# Altium footprint library EE490.PcbLib: 59 footprints (part 1 of 4)
Each footprint in its own frame and in the unit in brackets; x right, y up, seen from the top. Pads: shape width x height; smd on the part's side, far side on the other; paste and mask are expansions set on the pad; w line width, h text height; cw(c..) or ccw(c..) is an arc to the next point about the centre after c.
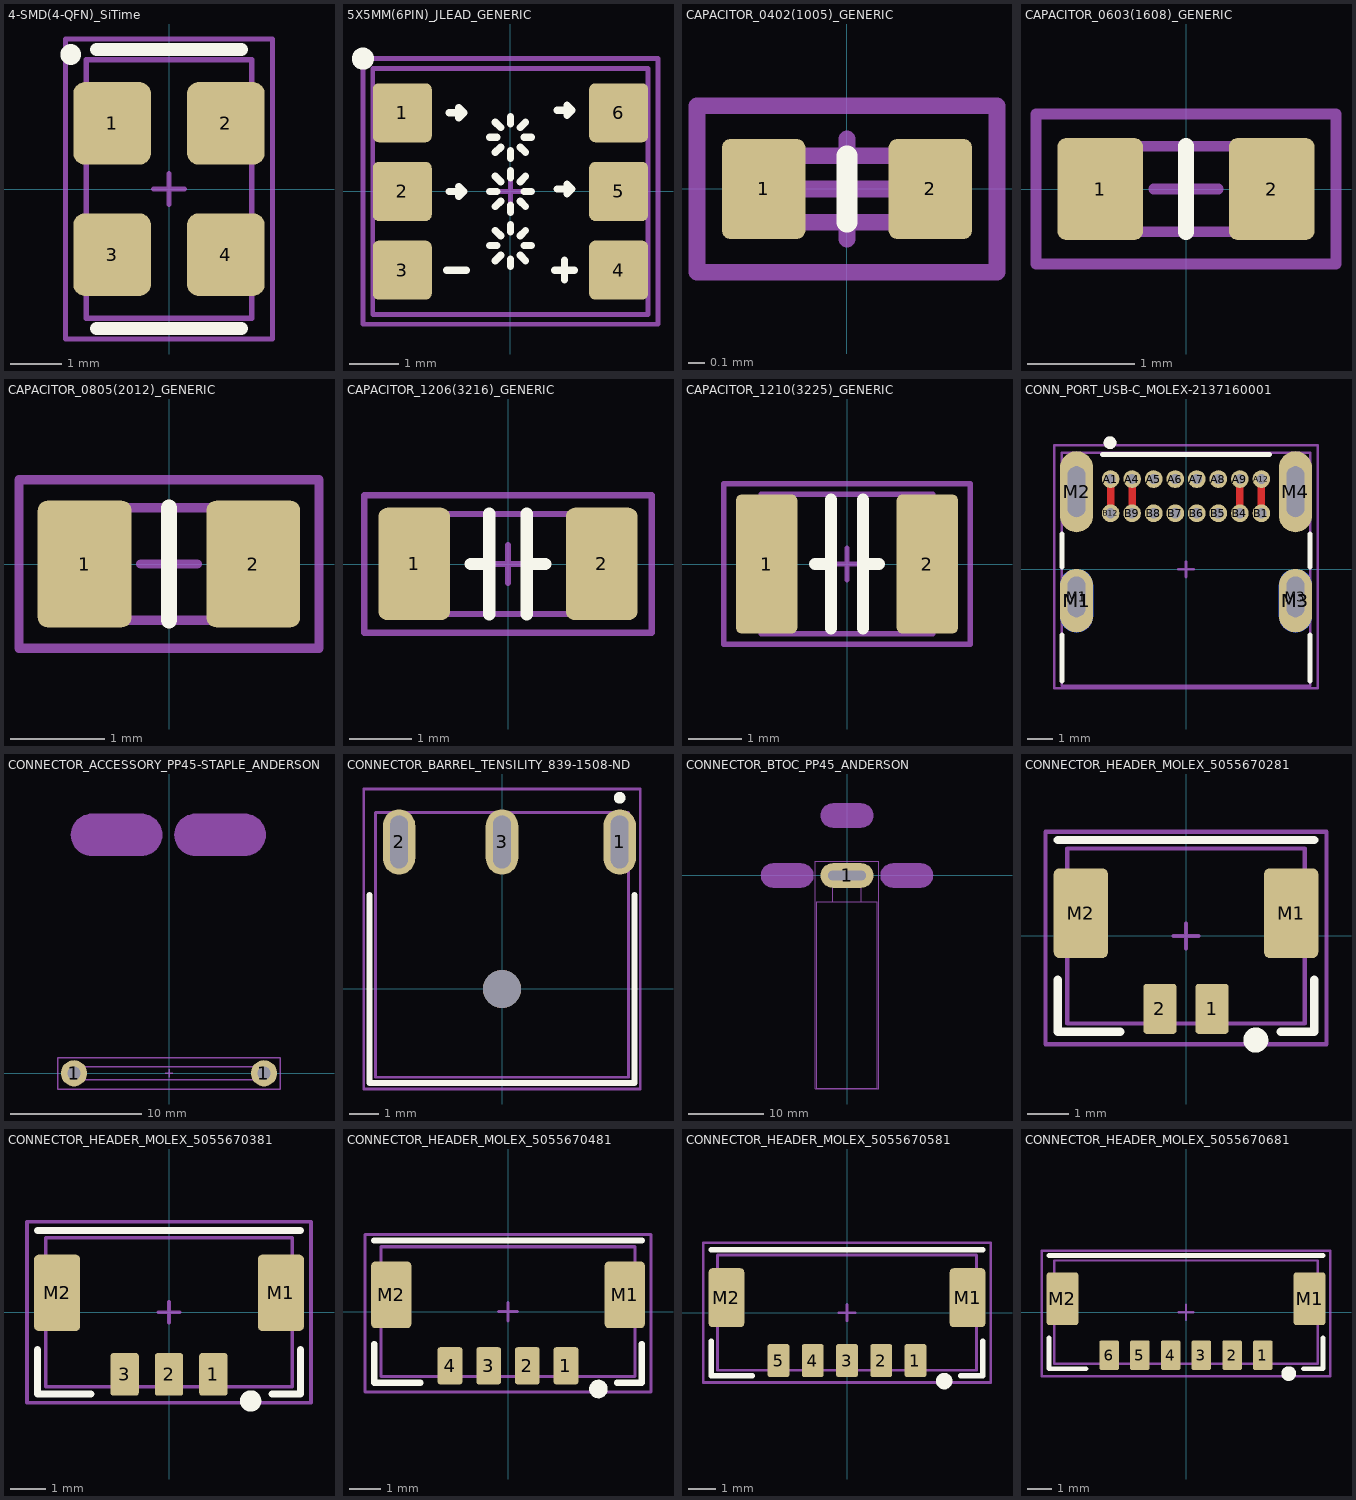
[diagram p0: the footprints below, top view; thin cyan lines are the x and y axes]

## 4-SMD(4-QFN)_SiTime [mm]
height 0.8
pads (4):
  rrect30% 1.5x1.6 smd: 1(-1.1,1.27) 2(1.1,1.27) 3(-1.1,-1.27) 4(1.1,-1.27)
Top Overlay:
  circle w0.3: c-1.9,2.6 r0.05
  lines w0.25: -1.4,-2.7 1.4,-2.7 ; -1.4,2.7 1.4,2.7
Top Component Center:
  lines w0.1: -0.3,0 0.3,0 ; 0,-0.3 0,0.3
Top Component Outline:
  lines w0.1: -1.6,-2.5 -1.6,2.5 1.6,2.5 1.6,-2.5 -1.6,-2.5
Top Designator:
  text ".Designator" at -4.998,-0.333 h1
Top Courtyard:
  lines w0.1: -2,-2.9 2,-2.9 2,2.9 -2,2.9 -2,-2.9
3D body "QFN_5032_4pins-Color.stp": height 0.83, standoff 0, extent -1.6,-2.5 1.6,2.5

## 5X5MM(6PIN)_JLEAD_GENERIC [mm]
pads (6):
  rrect20% 1.2x1.2 smd: 1(-2.2,1.6) 2(-2.2,0) 3(-2.2,-1.6) 4(2.2,-1.6) 5(2.2,0) 6(2.2,1.6)
Top Overlay:
  circle w0.25: c-3,2.7 r0.1
  lines w0.15: -1.3,-1.6 -0.9,-1.6 ; -1.25,0 -0.95,0 ; -1.25,1.6 -0.95,1.6 ; -1.05,-0.1 -0.95,0 ; -1.05,0.1 -0.95,0 ; -1.05,1.5 -0.95,1.6 ; -1.05,1.7 -0.95,1.6 ; -0.425,-1.1 -0.275,-1.1 ; -0.425,0 -0.275,0 ; -0.425,1.1 -0.275,1.1 ; -0.306,-1.406 -0.2,-1.3 ; -0.306,-0.794 -0.2,-0.9 ; -0.306,-0.306 -0.2,-0.2 ; -0.306,0.306 -0.2,0.2 ; -0.306,0.794 -0.2,0.9 ; -0.306,1.406 -0.2,1.3 ; 0,-1.525 0,-1.375 ; 0,-0.825 0,-0.675 ; 0,-0.425 0,-0.275 ; 0,0.275 0,0.425 ; 0,0.675 0,0.825 ; 0,1.375 0,1.525 ; 0.2,-1.3 0.306,-1.406 ; 0.2,-0.9 0.306,-0.794 ; 0.2,-0.2 0.306,-0.306 ; 0.2,0.2 0.306,0.306 ; 0.2,0.9 0.306,0.794 ; 0.2,1.3 0.306,1.406 ; 0.275,-1.1 0.425,-1.1 ; 0.275,0 0.425,0 ; 0.275,1.1 0.425,1.1 ; 0.9,-1.6 1.3,-1.6 ; 0.95,0.05 1.25,0.05 ; 0.95,1.65 1.25,1.65 ; 1.1,-1.8 1.1,-1.4 ; 1.15,-0.05 1.25,0.05 ; 1.15,0.15 1.25,0.05 ; 1.15,1.55 1.25,1.65 ; 1.15,1.75 1.25,1.65
Top Component Center:
  lines w0.1: -0.3,0 0.3,0 ; 0,-0.3 0,0.3
Top Component Outline:
  lines w0.1: -2.8,-2.5 2.8,-2.5 2.8,2.5 -2.8,2.5 -2.8,-2.5
Top Designator:
  text ".Designator" at -4.998,-0.333 h1
Top Courtyard:
  lines w0.1: -3,-2.7 3,-2.7 3,2.7 -3,2.7 -3,-2.7
3D body "Dotstar.stp": height 1.55, standoff 0, extent -2.75,-2.5 2.75,2.5

## CAPACITOR_0402(1005)_GENERIC [mm]
pads (2):
  rrect20% 0.5x0.6 smd: 1(-0.5,0) 2(0.5,0)
Top Overlay:
  lines w0.125: 0,-0.2 0,0.2
Top Component Center:
  lines w0.1: -0.3,0 0.3,0 ; 0,-0.3 0,0.3
Top Component Outline:
  lines w0.1: -0.5,-0.2 0.5,-0.2 0.5,0.2 -0.5,0.2 -0.5,-0.2
Top Designator:
  text ".Designator" at -2.499,-0.167 h0.5
Top Courtyard:
  lines w0.1: -0.9,-0.5 0.9,-0.5 0.9,0.5 -0.9,0.5 -0.9,-0.5
3D body "CAPC1005X06L.step": height 0.55, standoff 0, extent -0.5,-0.25 0.5,0.25

## CAPACITOR_0603(1608)_GENERIC [mm]
height 0.6
pads (2):
  rrect20% 0.8x0.95 smd: 1(-0.8,0) 2(0.8,0)
Top Overlay:
  lines w0.15: 0,-0.4 0,0.4
Top Component Center:
  lines w0.1: -0.3,0 0.3,0 ; 0,-0.3 0,0.3
Top Component Outline:
  lines w0.1: -0.8,-0.4 0.8,-0.4 0.8,0.4 -0.8,0.4 -0.8,-0.4
Top Designator:
  text ".Designator" at -3.999,-0.267 h0.8
Top Courtyard:
  lines w0.1: -1.4,-0.7 1.4,-0.7 1.4,0.7 -1.4,0.7 -1.4,-0.7
3D body "CAPC1608X09L.step": height 0.9, standoff 0, extent -0.8,-0.4 0.8,0.4

## CAPACITOR_0805(2012)_GENERIC [mm]
height 0.6
pads (2):
  rrect20% 1x1.35 smd: 1(-0.9,0) 2(0.9,0)
Top Overlay:
  lines w0.175: 0,-0.6 0,0.6
Top Component Center:
  lines w0.1: -0.3,0 0.3,0 ; 0,-0.3 0,0.3
Top Component Outline:
  lines w0.1: -1,-0.6 1,-0.6 1,0.6 -1,0.6 -1,-0.6
Top Designator:
  text ".Designator" at -4.998,-0.333 h1
Top Courtyard:
  lines w0.1: -1.6,-0.9 1.6,-0.9 1.6,0.9 -1.6,0.9 -1.6,-0.9
3D body "CAPC2012X14L.step": height 1.35, standoff 0, extent -1,-0.625 1,0.625

## CAPACITOR_1206(3216)_GENERIC [mm]
height 0.6
pads (2):
  rrect25% 1.15x1.8 smd: 1(-1.5,0) 2(1.5,0)
Top Overlay:
  lines w0.2: -0.6,0 -0.3,0 ; -0.3,-0.8 -0.3,0.8 ; 0.3,-0.8 0.3,0.8 ; 0.3,0 0.6,0
Top Component Center:
  lines w0.1: -0.3,0 0.3,0 ; 0,-0.3 0,0.3
Top Component Outline:
  lines w0.1: -1.6,-0.8 1.6,-0.8 1.6,0.8 -1.6,0.8 -1.6,-0.8
Top Designator:
  text ".Designator" at -4.998,-0.333 h1
Top Courtyard:
  lines w0.1: -2.3,-1.1 2.3,-1.1 2.3,1.1 -2.3,1.1 -2.3,-1.1
3D body "CAPC3216X18L.step": height 1.8, standoff 0, extent -1.6,-0.8 1.6,0.8

## CAPACITOR_1210(3225)_GENERIC [mm]
height 0.6
pads (2):
  rrect20% 1.15x2.6 smd: 1(-1.5,0) 2(1.5,0)
Top Overlay:
  lines w0.225: -0.6,0 -0.3,0 ; -0.3,-1.2 -0.3,1.2 ; 0.3,-1.2 0.3,1.2 ; 0.3,0 0.6,0
Top Component Center:
  lines w0.1: -0.3,0 0.3,0 ; 0,-0.3 0,0.3
Top Component Outline:
  lines w0.1: -1.6,-1.3 -1.6,1.3 1.6,1.3 1.6,-1.3 -1.6,-1.3
Top Designator:
  text ".Designator" at -5.998,-0.4 h1.2
Top Courtyard:
  lines w0.1: -2.3,-1.5 2.3,-1.5 2.3,1.5 -2.3,1.5 -2.3,-1.5
3D body "CAPC3225X20L.step": height 2, standoff 0, extent -1.6,-1.25 1.6,1.25

## CONN_PORT_USB-C_MOLEX-2137160001 [mm]
height 0.7
pads (24):
  round 0.7 hole 0.4 paste-1000 mask+0: A1(-2.975,3.565) A4(-2.125,3.565) A5(-1.275,3.565) A6(-0.425,3.565) A7(0.425,3.565) A8(1.275,3.565) A9(2.125,3.565) A12(2.975,3.565) B1(2.975,2.215) B4(2.125,2.215) B5(1.275,2.215) B6(0.425,2.215) B7(-0.425,2.215) B8(-1.275,2.215) B9(-2.125,2.215) B12(-2.975,2.215)
  rrect100% 1.3x2.5 smd paste-1000 mask+0: M1(-4.32,-1.235) M3(4.32,-1.235)
  rrect100% 1.3x2.5 smd far side paste-1000 mask+0: M1(-4.32,-1.235) M3(4.32,-1.235)
  rrect100% 0.7x1.6 hole 1.6 slot 0.7 at 0 deg paste-1000 mask+0: M1(-4.32,-1.085) M3(4.32,-1.085)
  rrect100% 1.3x3.2 hole 0.7 slot 2 at 90 deg paste-1000 mask+0: M2(-4.32,3.065) M4(4.32,3.065)
Top Layer:
  lines w0.3: -2.975,2.215 -2.975,3.565 ; -2.125,2.215 -2.125,3.565 ; 2.125,2.215 2.125,3.565 ; 2.975,2.215 2.975,3.565
Top Overlay:
  circle w0.25: c-3,5 r0.125
  lines w0.2: -4.9,-4.4 -4.9,-2.6 ; -4.9,0.1 -4.9,1.4 ; -3.295,4.535 3.295,4.535 ; 4.9,-4.4 4.9,-2.6 ; 4.9,0.1 4.9,1.4
Top Component Center:
  lines w0.1: -0.3,0 0.3,0 ; 0,-0.3 0,0.3
Top Component Outline:
  lines w0.1: -4.9,-4.6 4.9,-4.6 4.9,4.6 -4.9,4.6 -4.9,-4.6
Top Designator:
  text ".Designator" at -7.498,-0.5 h1.5
Top Courtyard:
  lines w0.1: -5.2,-4.7 5.2,-4.7 5.2,4.9 -5.2,4.9 -5.2,-4.7
Top Assembly:
  circle w0.25: c-3,5 r0.125
3D body "Conn_Molex_213716-0001_eec.STEP": height 0.25, standoff 0, extent -5.07,-4.635 5.07,4.765

## CONNECTOR_ACCESSORY_PP45-STAPLE_ANDERSON [mm]
pads (4):
  round 2 hole 1: 1(-7.25,0) 1(7.25,0)
  oval 7x3.25 on Mech16: ""(-4,18.2) ""(3.9,18.2)
Top Component Center:
  lines w0.1: -0.3,0 0.3,0 ; 0,-0.3 0,0.3
Top Component Outline:
  lines w0.1: -7.25,-0.5 7.25,-0.5 7.25,0.5 -7.25,0.5 -7.25,-0.5
Top Designator:
  text ".Designator" at -7.498,-0.5 h1.5
Top Courtyard:
  lines w0.1: -8.5,-1.2 8.5,-1.2 8.5,1.2 -8.5,1.2 -8.5,-1.2
3D body "1x2 Color.stp": height 9.4, standoff -3.6, extent -7.75,-0.5 7.75,0.5

## CONNECTOR_BARREL_TENSILITY_839-1508-ND [mm]
pads (4):
  oval 1.108x2.216 hole 0.6 slot 1.8 at 90 deg mask+0.05: 1(4,5) 2(-3.5,5) 3(0,5)
  round 1.3 hole 1.3 unplated paste-2539.97 mask+0: ""(0,0)
Top Overlay:
  circle w0.2: c4,6.5 r0.1
  lines w0.2: -4.5,3.2 -4.5,-3.2 4.5,-3.2 4.5,3.2
Top Component Center:
  lines w0.1: -0.295,-0.008 0.305,-0.008 ; 0.005,-0.308 0.005,0.292
Top Component Outline:
  lines w0.1: -4.3,-3 4.3,-3 4.3,6 -4.3,6 -4.3,-3
Top Designator:
  text ".Designator" at -10.317,-0.431 h2
Top Courtyard:
  lines w0.1: -4.7,-3.4 4.7,-3.4 4.7,6.8 -4.7,6.8 -4.7,-3.4
3D body "54-00125 Color.stp": height 5.5, standoff -2.99, extent -4.25,-3 4.25,6.5

## CONNECTOR_BTOC_PP45_ANDERSON [mm]
pads (4):
  oval 7x3.25 hole 1.25 slot 5 at 0 deg: 1(0,0)
  oval 7x3.25 on Mech16: ""(-7.9,0) ""(0,7.92) ""(7.9,0)
Top Component Center:
  lines w0.1: -0.3,0 0.3,0 ; 0,-0.3 0,0.3
Top Component Outline:
  lines w0.1: -4,-28.1 4,-28.1 4,-3.5 -4,-3.5 -4,-28.1 ; -1.9,-3.5 1.9,-3.5 1.9,0.3 -1.9,0.3 -1.9,-3.5
Top Designator:
  text ".Designator" at -9.997,-0.666 h2
Top Courtyard:
  lines w0.1: -4.2,-28.2 4.2,-28.2 4.2,1.9 -4.2,1.9 -4.2,-28.2
3D body "1336G1 IN HSG - Color Connector Side.stp": height 8.39, standoff -0.01, extent -4.446,-28.103 3.962,-3.515
3D body "1336G1 IN HSG - Color Solder Side.stp": height 6.21, standoff -5.68, extent -1.905,-3.518 1.905,0.521

## CONNECTOR_HEADER_MOLEX_5055670281 [mm]
pads (4):
  rrect20% 0.8x1.2 smd: 1(0.625,-1.75) 2(-0.625,-1.75)
  rrect20% 1.3x2.15 smd mask+0.076: M1(2.525,0.545) M2(-2.525,0.545)
Top Overlay:
  circle w0.3: c1.675,-2.5 r0.15
  lines w0.2: -3.075,-1.05 -3.075,-2.3 -1.575,-2.3 ; -3.075,2.3 3.075,2.3 ; 2.275,-2.3 3.075,-2.3 3.075,-1.05
Top Component Center:
  lines w0.1: -0.3,0 0.3,0 ; 0,-0.3 0,0.3
Top Component Outline:
  lines w0.1: -2.85,-2.1 2.85,-2.1 2.85,2.1 -2.85,2.1 -2.85,-2.1
Top Designator:
  text ".Designator" at -7.589,-0.499 h1.5
Top Courtyard:
  lines w0.1: -3.375,-2.6 3.375,-2.6 3.375,2.5 -3.375,2.5 -3.375,-2.6

## CONNECTOR_HEADER_MOLEX_5055670381 [mm]
pads (5):
  rrect20% 0.8x1.2 smd: 1(1.25,-1.75) 2(0,-1.75) 3(-1.25,-1.75)
  rrect20% 1.3x2.15 smd mask+0.076: M1(3.15,0.545) M2(-3.15,0.545)
Top Overlay:
  circle w0.3: c2.3,-2.5 r0.15
  lines w0.2: -3.7,-1.05 -3.7,-2.3 -2.2,-2.3 ; -3.7,2.3 3.7,2.3 ; 2.9,-2.3 3.7,-2.3 3.7,-1.05
Top Component Center:
  lines w0.1: -0.3,0 0.3,0 ; 0,-0.3 0,0.3
Top Component Outline:
  lines w0.1: -3.475,-2.1 3.475,-2.1 3.475,2.1 -3.475,2.1 -3.475,-2.1
Top Designator:
  text ".Designator" at -7.589,-0.499 h1.5
Top Courtyard:
  lines w0.1: -4,-2.55 4,-2.55 4,2.55 -4,2.55 -4,-2.55

## CONNECTOR_HEADER_MOLEX_5055670481 [mm]
pads (6):
  rrect20% 0.8x1.2 smd: 1(1.875,-1.75) 2(0.625,-1.75) 3(-0.625,-1.75) 4(-1.875,-1.75)
  rrect20% 1.3x2.15 smd mask+0.076: M1(3.775,0.545) M2(-3.775,0.545)
Top Overlay:
  circle w0.3: c2.925,-2.5 r0.15
  lines w0.2: -4.325,-1.05 -4.325,-2.3 -2.825,-2.3 ; -4.325,2.3 4.325,2.3 ; 3.525,-2.3 4.325,-2.3 4.325,-1.05
Top Component Center:
  lines w0.1: -0.3,0 0.3,0 ; 0,-0.3 0,0.3
Top Component Outline:
  lines w0.1: -4.1,-2.1 4.1,-2.1 4.1,2.1 -4.1,2.1 -4.1,-2.1
Top Designator:
  text ".Designator" at -7.589,-0.499 h1.5
Top Courtyard:
  lines w0.1: -4.625,-2.6 4.625,-2.6 4.625,2.5 -4.625,2.5 -4.625,-2.6

## CONNECTOR_HEADER_MOLEX_5055670581 [mm]
pads (7):
  rrect20% 0.8x1.2 smd: 1(2.5,-1.75) 2(1.25,-1.75) 3(0,-1.75) 4(-1.25,-1.75) 5(-2.5,-1.75)
  rrect20% 1.3x2.15 smd mask+0.076: M1(4.4,0.545) M2(-4.4,0.545)
Top Overlay:
  circle w0.3: c3.55,-2.5 r0.15
  lines w0.2: -4.95,-1.05 -4.95,-2.3 -3.45,-2.3 ; -4.95,2.3 4.95,2.3 ; 4.15,-2.3 4.95,-2.3 4.95,-1.05
Top Component Center:
  lines w0.1: -0.3,0 0.3,0 ; 0,-0.3 0,0.3
Top Component Outline:
  lines w0.1: -4.725,-2.1 4.725,-2.1 4.725,2.1 -4.725,2.1 -4.725,-2.1
Top Designator:
  text ".Designator" at -7.589,-0.499 h1.5
Top Courtyard:
  lines w0.1: -5.25,-2.55 5.25,-2.55 5.25,2.55 -5.25,2.55 -5.25,-2.55

## CONNECTOR_HEADER_MOLEX_5055670681 [mm]
pads (8):
  rrect20% 0.8x1.2 smd: 1(3.125,-1.75) 2(1.875,-1.75) 3(0.625,-1.75) 4(-0.625,-1.75) 5(-1.875,-1.75) 6(-3.125,-1.75)
  rrect20% 1.3x2.15 smd mask+0.076: M1(5.025,0.545) M2(-5.025,0.545)
Top Overlay:
  circle w0.3: c4.175,-2.5 r0.15
  lines w0.2: -5.575,-1.05 -5.575,-2.3 -4.075,-2.3 ; -5.575,2.3 5.575,2.3 ; 4.775,-2.3 5.575,-2.3 5.575,-1.05
Top Component Center:
  lines w0.1: -0.3,0 0.3,0 ; 0,-0.3 0,0.3
Top Component Outline:
  lines w0.1: -5.35,-2.1 5.35,-2.1 5.35,2.1 -5.35,2.1 -5.35,-2.1
Top Designator:
  text ".Designator" at -7.589,-0.499 h1.5
Top Courtyard:
  lines w0.1: -5.875,-2.6 5.875,-2.6 5.875,2.5 -5.875,2.5 -5.875,-2.6